# EAGLE library part DF17-40P (library Lysenko_Eagle_Lib)
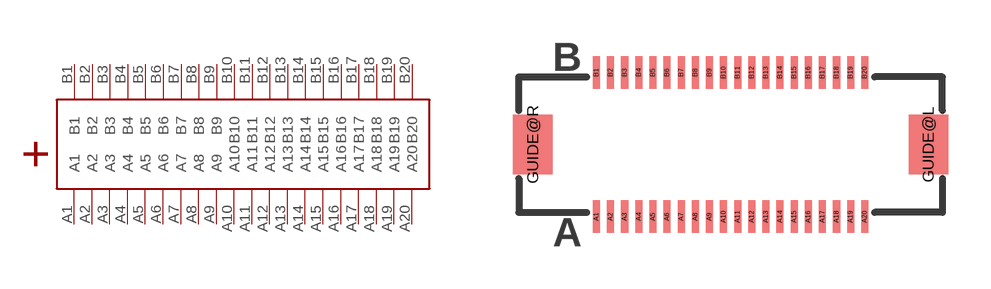
[diagram p4: symbol with the pads of DF17-40P; footprint DF17-40P]

Designator prefix -

## DF17-40P  [DF17-40P]
A1  A1
A2  A2
A3  A3
A4  A4
A5  A5
A6  A6
A7  A7
A8  A8
A9  A9
A10  A10
A11  A11
A12  A12
A13  A13
A14  A14
A15  A15
A16  A16
A17  A17
A18  A18
A19  A19
A20  A20
B1  B1
B2  B2
B3  B3
B4  B4
B5  B5
B6  B6
B7  B7
B8  B8
B9  B9
B10  B10
B11  B11
B12  B12
B13  B13
B14  B14
B15  B15
B16  B16
B17  B17
B18  B18
B19  B19
B20  B20

## Footprint DF17-40P (pad centres in mm)
smd 0.25 x 1.15: A1 -9.75,-2.553; A2 -9.25,-2.553; A3 -8.75,-2.553; A4 -8.25,-2.553; A5 -7.75,-2.553; A6 -7.25,-2.553; A7 -6.75,-2.553; A8 -6.25,-2.553; A9 -5.75,-2.553; A10 -5.25,-2.553; A11 -4.75,-2.553; A12 -4.25,-2.553; A13 -3.75,-2.553; A14 -3.25,-2.553; A15 -2.75,-2.553; A16 -2.25,-2.553; A17 -1.75,-2.553; A18 -1.25,-2.553; A19 -0.75,-2.553; A20 -0.25,-2.553; B1 -9.75,2.553; B2 -9.25,2.553; B3 -8.75,2.553; B4 -8.25,2.553; B5 -7.75,2.553; B6 -7.25,2.553; B7 -6.75,2.553; B8 -6.25,2.553; B9 -5.75,2.553; B10 -5.25,2.553; B11 -4.75,2.553; B12 -4.25,2.553; B13 -3.75,2.553; B14 -3.25,2.553; B15 -2.75,2.553; B16 -2.25,2.553; B17 -1.75,2.553; B18 -1.25,2.553; B19 -0.75,2.553; B20 -0.25,2.553
smd 1.4 x 2.1: GUIDE@L 2,0; GUIDE@R -12,0